# Altium schematic symbol library Schlib1.SchLib: 33 symbols
Pins are listed as number, name and electrical type; pins without a type are passive.

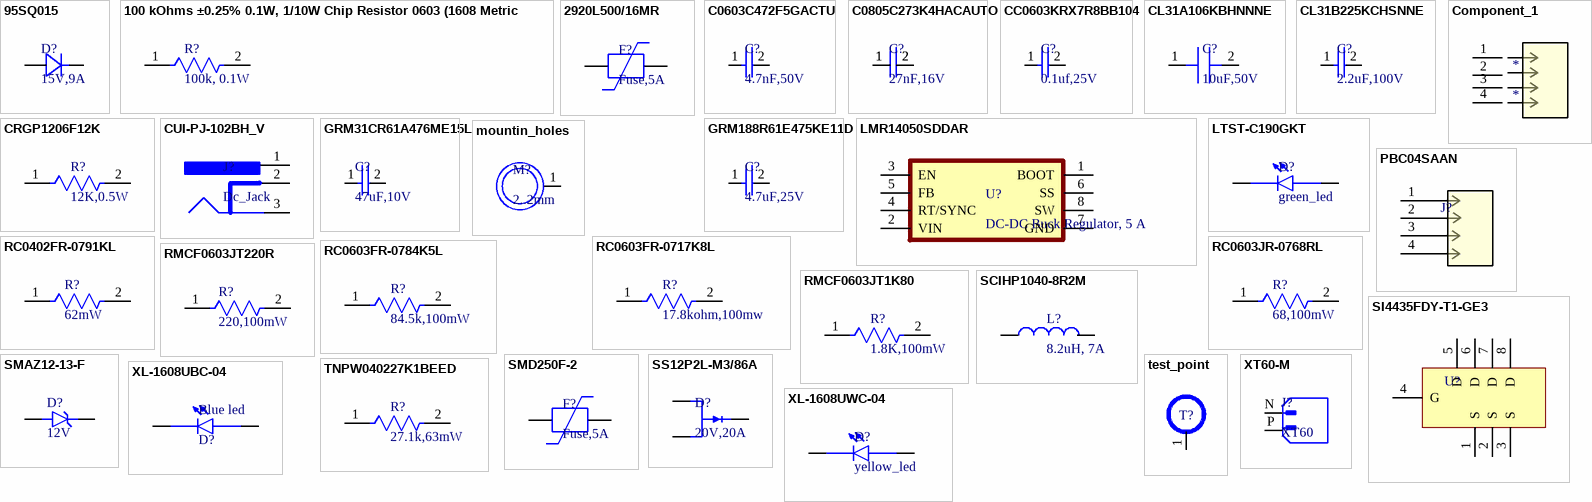
[diagram p0: symbols 95SQ015 to XT60-M]

## 95SQ015
designator D?, comment 15V,9A
DIODE SCHOTTKY 15V 9A DO201AD; manafucturer part number: 95SQ015; digikey part number: 1655-1922-3-ND
footprint 95SQ015 (DIODE SCHOTTKY 15V 9A DO201AD)
pins: 1 ANODE, 2 CATHODE

## 100 kOhms ±0.25% 0.1W, 1/10W Chip Resistor 0603 (1608 Metric) - Thin Film
designator R?, comment 100k, 0.1W
100 kOhms ±0.25% 0.1W, 1/10W Chip Resistor 0603 (1608 Metric) - Thin Film; manafucturer part number: RT0603CRE07100KL; supplier part number: C862453
footprint RT0603CRC07100KL (100 kOhms ±0.25% 0.1W, 1/10W Chip Resistor 0603 (1608 Metric) - Thin Film)
pins: 1, 2

## 2920L500/16MR
designator F?, comment Fuse,5A
16V 5A 40A 10A 5mΩ 2920 PTC Resettable Fuses ROHS; manafucturer part search: 2920L500/16MR; supplier part number: C207091
footprint 2920L500/16MR (C207091)
pins: 1, 2

## C0603C472F5GACTU
designator C?, comment 4.7nF,50V
50V 4.7nF C0G 0603 Ceramic Capacitors ROHS; manafucturer part number: C0603C472F5GACTU; supplier part number: C22418770
footprint C0603C472F5GACTU (50V 4.7nF C0G 0603 Ceramic Capacitors ROHS)
pins: 1, 2

## C0805C273K4HACAUTO
designator C?, comment 27nF,16V
16V 27nF X8R ±10% 0805 Ceramic Capacitors ROHS; manafucturer part search: C0805C273K4HACAUTO; supplier part number: C2218666
footprint C0805C273K4HACAUTO (16V 27nF X8R ±10% 0805 Ceramic Capacitors ROHS)
pins: 1, 1, 2, 2

## CC0603KRX7R8BB104
designator C?, comment 0.1uf,25V
25V 100nF X7R ±10% 0603 Ceramic Capacitors ROHS; manafucturer part number: CC0603KRX7R8BB104; supplier part number: C92490
footprint CC0603KRX7R8BB104 (25V 100nF X7R ±10% 0603 Ceramic Capacitors ROHS)
pins: 1, 2

## CL31A106KBHNNNE
designator C?, comment 10uF,50V
CAP CER 10uF 50V X5R 1206
footprint CL31A106KBHNNNE (50V 10uF X5R ±10% 1206 Ceramic Capacitors ROHS)
pins: 1, 2

## CL31B225KCHSNNE
designator C?, comment 2.2uF,100V
100V 2.2uF X7R ±10% 1206 Ceramic Capacitors ROHS; manafucturer part number: CL31B225KCHSNNE; supplier part number: C170101
footprint CL31A106KBHNNNE (50V 10uF X5R ±10% 1206 Ceramic Capacitors ROHS)
pins: 1, 2

## Component_1
designator *
pins: 1, 2, 3, 4

## CRGP1206F12K
designator R?, comment 12K,0.5W
12 kOhms ±1% 0.5W, 1/2W Chip Resistor 1206 (3216 Metric) Automotive AEC-Q200, Pulse Withstanding Thick Film; manufucturer part number: CRGP1206F12K; supplier part number: C2082462
footprint CRGP1206F12K
pins: 1, 2

## CUI-PJ-102BH_V
designator J?, comment Dc_Jack
2.5mm 6.5mm Power Connectors ROHS; manafucturer part number: PJ-102BH; supplier part number: C3095964
footprint PJ-102BH
pins: 1, 2, 3

## GRM31CR61A476ME15L
designator C?, comment 47uF,10V
10V 47uF X5R ±20% 1206 Ceramic Capacitors ROHS; manafucturer part number: GRM31CR61A476ME15L; supplier part number: C94034
footprint GRM31CR61A476ME15L (10V 47uF X5R ±20% 1206 Ceramic Capacitors ROHS)
pins: 1, 2

## GRM188R61E475KE11D
designator C?, comment 4.7uF,25V
25V 4.7uF X5R ±10% 0603 Ceramic Capacitors ROHS; manafucturer part number: GRM188R61E475KE11D; supplier part number: C90057
footprint GRM188R61E475KE11D (25V 4.7uF X5R ±10% 0603 Ceramic Capacitors ROHS)
pins: 1, 2

## LMR14050SDDAR
designator U?, comment DC-DC Buck Regulator, 5 A
2.5MHz 5A Buck Adjustable 800mV~28V 1 SOIC-8-EP Voltage Regulators - DC DC Switching Regulators ROHS; manafucturer part number: LMR14050SDDAR; supplier part number: C155484
footprint LMR14050SDDAR (SIMPLE SWITCHER® 40-V, 5-A, 2.2-MHz step-down converter with 40-μA IQ)
pins: 1 BOOT, 2 VIN, 3 EN, 4 RT/SYNC, 5 FB, 6 SS, 7 GND, 8 SW

## LTST-C190GKT
designator D?, comment green_led
63mW 27.1kΩ ±25ppm/℃ Thin Film Resistor ±0.1% 0402 Chip Resistor - Surface Mount ROHS; manafucturer part search: TNPW040227K1BEED; supplier part number: C4266737
footprint LTST-C190GKT (20mA Yellow Green 2.1V 100mW 0603 LED Indication - Discrete ROHS)
pins: A, C

## mountin_holes
designator M?, comment 2..2mm
mounting hole 2.2m
footprint mountinh hole (2.2mm)
pins: 1 0

## PBC04SAAN
designator J?, comment Through Hole,P=2.54mm  (value not drawn)
Black 4P Tin 2.54mm Phosphor Bronze 3A 1 Through Hole -65℃~+125℃ Through Hole,P=2.54mm Headers, Male Pins ROHS; manafucturer part search: PBC04SAAN; supplier part number: C5707257
footprint PBC04SAAN
pins: 1, 2, 3, 4

## RC0402FR-0791KL
designator R?, comment 62mW
91kΩ 62.5mW 50V ±100ppm/℃ Thick Film Resistor ±1% 0402 Chip Resistor - Surface Mount ROHS; manafucturer part search: RC0402FR-0791KL; supplier part number: C327323
footprint RC0402FR-0791KL (91kΩ 62.5mW 50V ±100ppm/℃ Thick Film Resistor ±1% 0402 Chip Resistor - Surface Mount ROHS)
pins: 1, 2

## RC0603FR-0717K8L
designator R?, comment 17.8kohm,100mw
100mW 17.8kΩ 75V ±100ppm/℃ Thick Film Resistor ±1% 0603 Chip Resistor - Surface Mount ROHS; manafucturer part number: RC0603FR-0717K8L; supplier part number: C185364
footprint RC0603FR-0717K8L (100mW 17.8kΩ 75V ±100ppm/℃ Thick Film Resistor ±1% 0603 Chip Resistor - Surface Mount ROHS)
pins: 1, 2

## RC0603FR-0784K5L
designator R?, comment 84.5k,100mW
100mW 84.5kΩ 75V ±100ppm/℃ Thick Film Resistor ±1% 0603 Chip Resistor - Surface Mount ROHS; manafucturer part number: RC0603FR-0784K5L; supplier part number: C326920
footprint RC0603FR-0784K5L (100mW 84.5kΩ 75V ±100ppm/℃ Thick Film Resistor ±1% 0603 Chip Resistor - Surface Mount ROHS)
pins: 1, 2

## RC0603JR-0768RL
designator R?, comment 68,100mW
100mW 68Ω 75V ±100ppm/℃ Thick Film Resistor ±5% 0603 Chip Resistor - Surface Mount ROHS; manafucturer part search: RC0603JR-0768RL; supplier part search: C163413
footprint RC0603JR-0768RL
pins: 1, 2

## RMCF0603JT1K80
designator R?, comment 1.8K,100mW
100mW 1.8kΩ 75V ±200ppm/℃ Thick Film Resistor ±5% 0603 Chip Resistor - Surface Mount ROHS; manafucturer part search: RMCF0603JT1K80; supplier part search: C2483889
footprint RMCF0603JT1K80
pins: 1, 2

## RMCF0603JT220R
designator R?, comment 220,100mW
100mW 220Ω 75V ±200ppm/℃ Thick Film Resistor ±5% 0603 Chip Resistor - Surface Mount ROHS; manafucturer part search: RMCF0603JT220R; supplier part search: C2484076
footprint RMCF0603JT220R (100mW 220Ω 75V ±200ppm/℃ Thick Film Resistor ±5% 0603 Chip Resistor - Surface Mount ROHS)
pins: 1, 2

## SCIHP1040-8R2M
designator L?, comment 8.2uH, 7A
7A 8.2uH ±20% 10A 31mΩ SMD,11.5x10.2mm Fixed Inductors ROHS; manafucturer part number: SCIHP1040-8R2M; supplier part number: C6293289
footprint SCIHP1040-8R2M (7A 8.2uH ±20% 10A 31mΩ SMD,11.5x10.2mm Fixed Inductors ROHS)
pins: 1, 2

## SI4435FDY-T1-GE3
designator U?, comment P channel mosfet  (value not drawn)
30V 12.6A 19mΩ@10V,9A 2.2W 2.2V 1 P-Channel SO-8 Single FETs, MOSFETs ROHS; manafucturer part search: SI4435FDY-T1-GE3; supplier part number: C727418
footprint SI4435FDY-T1-GE3 (30V 12.6A 19mΩ@10V,9A 2.2W 2.2V 1 P-Channel SO-8 Single FETs, MOSFETs ROHS)
pins: 1 S, 2 S, 3 S, 4 G, 5 D, 6 D, 7 D, 8 D

## SMAZ12-13-F
designator D?, comment 12V
DIODE ZENER 12V 1W SMA; manafucturer part number: SMAZ12-13-F; supplier part number: C110523
footprint SMAZ12-13-F (Independent 11.4V~12.6V 1W 12V SMA Single Zener Diodes ROHS)
pins: 1 K, 2 A

## SMD250F-2
designator F?, comment Fuse,5A
Polymeric PTC Resettable Fuse 15V 2.5 A Ih Surface Mount 2-SMD; manafucturer part number: SMD250F-2; supplier part number: C5299834
footprint SMD250F-2 (Polymeric PTC Resettable Fuse 15V 2.5 A Ih Surface Mount 2-SMD)
pins: 1, 2

## SS12P2L-M3/86A
designator D?, comment 20V,20A
20V 560mV@12A 12A TO-277A Single Diodes ROHS; manafucturer part number: SS12P2L-M3/86A; supplier part number: C3758037
footprint SS12P2L-M3/86A (20V 560mV@12A 12A TO-277A Single Diodes ROHS)
pins: 1 A1, 2 A2, 3 K

## test_point
designator T?  (value not drawn)
1.5mm
footprint test_point
pins: 1 0

## TNPW040227K1BEED
designator R?, comment 27.1k,63mW
63mW 27.1kΩ ±25ppm/℃ Thin Film Resistor ±0.1% 0402 Chip Resistor - Surface Mount ROHS; manafucturer number: TNPW040227K1BEED; supplier number: C4266737
footprint TNPW040227K1BEED (63mW 27.1kΩ ±25ppm/℃ Thin Film Resistor ±0.1% 0402 Chip Resistor - Surface Mount ROHS)
pins: 1, 2

## XL-1608UBC-04
designator Blue led, comment D?
20mA 3.3V Blue 70mW 0603 LED Indication - Discrete ROHS; manafucturer part number: XL-1608UBC-04; supplier part number: C965807
footprint XL-1608UBC-04 (20mA 3.3V Blue 70mW 0603 LED Indication - Discrete ROHS)
pins: A, C

## XL-1608UWC-04
designator D?, comment yellow_led
20mA 13700K~33000K White 2.7V 70mW 0603 LED Indication - Discrete ROHS; manafucturer part search: XL-1608UWC-04; supplier part search: C965808
footprint XL-1608UWC-04 (20mA 13700K~33000K White 2.7V 70mW 0603 LED Indication - Discrete ROHS)
pins: A, C

## XT60-M
designator J?, comment XT60
Plug; DC supply; XT60; male; PIN: 2; for cable; soldered; 30A; 500V; SNAPEDA_LINK: https://www.snapeda.com/parts/XT60-M/AMASS/view-part/?ref=snap
footprint XT60-M (Plug; DC supply; XT60; male; PIN: 2; for cable; soldered; 30A; 500V)
pins: N XT60, P XT60